# Altium schematic symbol library Connecteur-Alim-Pluggi.SchLib: 2 symbols
Pins are listed as number, name and electrical type; pins without a type are passive.

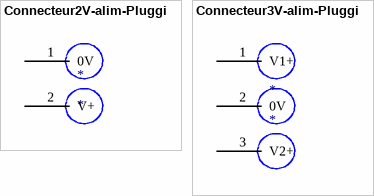
[diagram p0: symbols Connecteur2V-alim-Pluggi to Connecteur3V-alim-Pluggi]

## Connecteur2V-alim-Pluggi
designator *
footprint Connecteur2V-Alim-Pluggi
pins: 1 0V, 2 V+

## Connecteur3V-alim-Pluggi
designator *
footprint CONNECTEUR3V-ALIM-PLUGGI
pins: 1 V1+, 2 0V, 3 V2+